# Altium schematic symbol library RCL.SchLib: 6 symbols
Pins are listed as number, name and electrical type; pins without a type are passive.

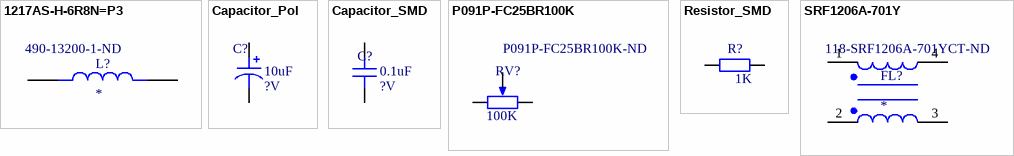
[diagram p0: symbols 1217AS-H-6R8N=P3 to SRF1206A-701Y]

## 1217AS-H-6R8N=P3
designator L?  Supplier Part Number 1: 490-13200-1-ND
Inductor with Inductance: 6.8uH Tol. +/-30%, Package: 3131 (8080); MF: Murata; MP: 1217AS-H-6R8N=P3; SnapEDA_Link: https://www.snapeda.com/parts/1217AS-H-6R8N=P3/Murata/view-part/?ref=snap; Digi-Key_Part_Number: 490-14059-2-ND; Purchase-URL: https://pricing.snapeda.com/search/part/1217AS-H-6R8N=P3/?ref=eda; Check_prices: https://www.snapeda.com/parts/1217AS-H-6R8N=P3/Murata/view-part/?ref=eda; Value: 6.8uH; Package: NONSTANDARD; Supplier 1: Digi-Key
footprint IND_1217AS-H-6R8N=P3
pins: 1, 2

## Capacitor_Pol
designator C?  value 10uF  Voltage: ?V
THT Polarised Capacitor
footprint CAP AL TH D25 L12.5 H52 (16MM Diameter, 7.5MM Lead Spacing Aluminium Capacitor)
footprint CAP AL TH D25 L12.5 H42 (16MM Diameter, 7.5MM Lead Spacing Aluminium Capacitor)
footprint CAP AL TH D25 L12.5 H32 (16MM Diameter, 7.5MM Lead Spacing Aluminium Capacitor)
footprint CAP AL TH D25 L12.5 H14.5 (16MM Diameter, 7.5MM Lead Spacing Aluminium Capacitor)
footprint CAP AL TH D22 L10 H53 (16MM Diameter, 7.5MM Lead Spacing Aluminium Capacitor)
footprint CAP AL TH D22 L10 H43 (16MM Diameter, 7.5MM Lead Spacing Aluminium Capacitor)
footprint CAP AL TH D22 L10 H33 (16MM Diameter, 7.5MM Lead Spacing Aluminium Capacitor)
footprint CAP AL TH D22 L10 H14.5 (16MM Diameter, 7.5MM Lead Spacing Aluminium Capacitor)
footprint CAP AL TH D16 L7.5 H37 (16MM Diameter, 7.5MM Lead Spacing Aluminium Capacitor)
footprint CAP AL TH D16 L7.5 H33.5 (16MM Diameter, 7.5MM Lead Spacing Aluminium Capacitor)
footprint CAP AL TH D16 L7.5 H27 (16MM Diameter, 7.5MM Lead Spacing Aluminium Capacitor)
footprint CAP AL TH D16 L7.5 H26.5 (16MM Diameter, 7.5MM Lead Spacing Aluminium Capacitor)
footprint CAP AL TH D16 L7.5 H22 (16MM Diameter, 7.5MM Lead Spacing Aluminium Capacitor)
footprint CAP AL TH D16 L7.5 H20 (16MM Diameter, 7.5MM Lead Spacing Aluminium Capacitor)
footprint CAP AL TH D16 L7.5 H16.5 (16MM Diameter, 7.5MM Lead Spacing Aluminium Capacitor)
footprint CAP AL TH D12.5 L5 H35.5 (12.5MM Diameter, 5MM Lead Spacing Aluminium Capacitor)
footprint CAP AL TH D12.5 L5 H27 (12.5MM Diameter, 5MM Lead Spacing Aluminium Capacitor)
footprint CAP AL TH D12.5 L5 H26.5 (12.5MM Diameter, 5MM Lead Spacing Aluminium Capacitor)
footprint CAP AL TH D12.5 L5 H25 (12.5MM Diameter, 5MM Lead Spacing Aluminium Capacitor)
footprint CAP AL TH D12.5 L5 H22 (12.5MM Diameter, 5MM Lead Spacing Aluminium Capacitor)
footprint CAP AL TH D12.5 L5 H21.5 (12.5MM Diameter, 5MM Lead Spacing Aluminium Capacitor)
footprint CAP AL TH D12.5 L5 H20 (12.5MM Diameter, 5MM Lead Spacing Aluminium Capacitor)
footprint CAP AL TH D12.5 L5 H17.5 (12.5MM Diameter, 5MM Lead Spacing Aluminium Capacitor)
footprint CAP AL TH D12.5 L5 H16.5 (12.5MM Diameter, 5MM Lead Spacing Aluminium Capacitor)
footprint CAP AL TH D12.5 L5 H15 (12.5MM Diameter, 5MM Lead Spacing Aluminium Capacitor)
footprint CAP AL TH D12.5 L5 H14 (12.5MM Diameter, 5MM Lead Spacing Aluminium Capacitor)
footprint CAP AL TH D10 L5 H30 (10MM Diameter, 5MM Lead Spacing Aluminium Capacitor)
footprint CAP AL TH D10 L5 H22 (10MM Diameter, 5MM Lead Spacing Aluminium Capacitor)
footprint CAP AL TH D10 L5 H17.5 (10MM Diameter, 5MM Lead Spacing Aluminium Capacitor)
footprint CAP AL TH D10 L5 H14.5 (10MM Diameter, 5MM Lead Spacing Aluminium Capacitor)
footprint CAP AL TH D10 L5 H12.5 (10MM Diameter, 5MM Lead Spacing Aluminium Capacitor)
footprint CAP AL TH D8 L3.5 H21 (8MM Diameter, 3.5MM Lead Spacing Aluminium Capacitor)
footprint CAP AL SMD FT SIZE D (Panasonic Surface Mount Caps, Series FT, Type V)
footprint CAP AL SMD ZS SIZE GT16 (Panasonic Surface Mount Caps, Series ZS, Type V)
footprint CAP AL TH D6.3 L2.5 H12.5 (6.3mm Diameter, 2.5mm Lead Spacing Aluminium Capacitor)
footprint CAP AL SMD ZS SIZE G Vibration Proof (Panasonic Surface Mount Caps, Series ZS, Type V)
footprint CAP AL SMD SVPK E7 (Dia 8mm Polymer Aluminum)
footprint CAP AL SMD D10 W10.3 L 12.4
footprint CAP AL TH D35 L10 H35 (35MM Diameter, 10MM Lead Spacing Aluminium Capacitor)
footprint DGH504Q5R5_H
footprint CAP AL TH D8 L3.5 H11.5 (8MM Diameter, 3.5MM Lead Spacing Aluminium Capacitor)
footprint CAP AL SMD FT SIZE D8 (Panasonic Surface Mount Caps, Series FT, Type V, 8mm heigth)
footprint CAP AL SMD FT SIZE C (Panasonic Surface Mount Caps, Series FT, Type V, 8mm heigth)
footprint CAP AL TH D5 L2 H12.5 (5mm Diameter, 2mm Lead Spacing Aluminium Capacitor)
pins: 1, 2

## Capacitor_SMD
designator C?  value 0.1uF  Voltage: ?V
SMD Capacitor
footprint CAP 0201/0603 (Chip Capacitor, 2-Leads, Body 0.60x0.30mm, IPC Medium Density)
footprint CAP 0201/0603 RF (Chip Capacitor, 2-Leads, Body 0.60x0.30mm, IPC High Density)
footprint CAP 0402/1005 (Chip Capacitor, 2-Leads, Body 1.02x0.51mm, IPC Medium Density)
footprint CAP 0402/1005 RF (Chip Capacitor, 2-Leads, Body 1.02x0.51mm, IPC High Density)
footprint CAP 0603/1608 (Chip Capacitor, 2-Leads, Body 1.60x0.80mm, IPC Medium Density)
footprint CAP 0603/1608 RF (Chip Capacitor, 2-Leads, Body 1.60x0.80mm, IPC High Density)
footprint CAP 0805/2012 (Chip Capacitor, 2-Leads, Body 2.00x1.20mm, IPC Medium Density)
footprint CAP 0805/2012 RF (Chip Capacitor, 2-Leads, Body 2.00x1.20mm, IPC High Density)
footprint CAP 1206/3216 (Chip Capacitor, 2-Leads, Body 3.25x1.60mm, IPC Medium Density)
footprint CAP 1206/3216 - 0.8MM (Chip Capacitor, 2-Leads, Body 3.25x1.60mm, IPC Medium Density)
footprint CAP 1206/3216 - 1.0MM (Chip Capacitor, 2-Leads, Body 3.25x1.60mm, IPC Medium Density)
footprint CAP 1206/3216 - 1.2MM (Chip Capacitor, 2-Leads, Body 3.25x1.60mm, IPC Medium Density)
footprint CAP 1206/3216 - 1.8MM (Chip Capacitor, 2-Leads, Body 3.25x1.60mm, IPC Medium Density)
footprint CAP 1210/3225 - 1MM (Chip Capacitor, 2-Leads, Body 3.20x2.50mm, IPC Medium Density)
footprint CAP 1210/3225 - 1.2MM (Chip Capacitor, 2-Leads, Body 3.20x2.50mm, IPC Medium Density)
footprint CAP 1210/3225 - 1.4MM (Chip Capacitor, 2-Leads, Body 3.20x2.50mm, IPC Medium Density)
footprint CAP 1210/3225 - 1.6MM (Chip Capacitor, 2-Leads, Body 3.20x2.50mm, IPC Medium Density)
footprint CAP 1210/3225 - 1.8MM (Chip Capacitor, 2-Leads, Body 3.20x2.50mm, IPC Medium Density)
footprint CAP 1210/3225 - 2.0MM (Chip Capacitor, 2-Leads, Body 3.20x2.50mm, IPC Medium Density)
footprint CAP 1210/3225 - 2.2MM (Chip Capacitor, 2-Leads, Body 3.20x2.50mm, IPC Medium Density)
footprint CAP 1210/3225 - 2.5MM (Chip Capacitor, 2-Leads, Body 3.20x2.50mm, IPC Medium Density)
footprint CAP 1210/3225 - 2.8MM (Chip Capacitor, 2-Leads, Body 3.20x2.50mm, IPC Medium Density)
footprint CAP 1812/4532 1.1MM (Chip Capacitor, 2-Leads, Body 4.50x3.20mm, IPC Medium Density)
footprint CAP 1812/4532 1.35MM (Chip Capacitor, 2-Leads, Body 4.50x3.20mm, IPC Medium Density)
footprint CAP 1812/4532 1.5MM (Chip Capacitor, 2-Leads, Body 4.50x3.20mm, IPC Medium Density)
footprint CAP 1812/4532 1.75MM (Chip Capacitor, 2-Leads, Body 4.50x3.20mm, IPC Medium Density)
footprint CAP 1812/4532 2.00MM (Chip Capacitor, 2-Leads, Body 4.50x3.20mm, IPC Medium Density)
footprint CAP 1812/4532 2.20MM (Chip Capacitor, 2-Leads, Body 4.50x3.20mm, IPC Medium Density)
footprint CAP 1812/4532 2.55MM (Chip Capacitor, 2-Leads, Body 4.50x3.20mm, IPC Medium Density)
footprint CAP 1812/4532 2.8MM (Chip Capacitor, 2-Leads, Body 4.50x3.20mm, IPC Medium Density)
footprint CAP 1812/4532 3.5MM (Chip Capacitor, 2-Leads, Body 4.50x3.20mm, IPC Medium Density)
footprint CAP 2220/5650 1.5MM (Chip Capacitor, 2-Leads, Body 5.70x5.00mm, IPC Medium Density)
footprint CAP 2220/5650 2.0MM (Chip Capacitor, 2-Leads, Body 5.70x5.00mm, IPC Medium Density)
footprint CAP 2220/5650 2.5MM (Chip Capacitor, 2-Leads, Body 5.70x5.00mm, IPC Medium Density)
footprint CAP 2220/5650 3.0MM (Chip Capacitor, 2-Leads, Body 5.70x5.00mm, IPC Medium Density)
footprint CAP 2220/5650 3.3MM (Chip Capacitor, 2-Leads, Body 5.70x5.00mm, IPC Medium Density)
footprint CAP 2220/5650 4.2MM (Chip Capacitor, 2-Leads, Body 5.70x5.00mm, IPC Medium Density)
footprint CAP 0805/2012 - Large Separation (Chip Capacitor, 2-Leads, Body 2.00x1.20mm, IPC Medium Density)
pins: 1, 2

## P091P-FC25BR100K
designator RV?  value 100K  Supplier Part Number 1: P091P-FC25BR100K-ND  (hidden comment: *)
Potentiometer 9mm 100K ohm 20% Push Lock; Supplier 1: Digi-Key
pins: 1, 2 TAP, 3

## Resistor_SMD
designator R?  value 1K
SMD Resistor; Power: 100mW
footprint RES 0201/0603 (Chip Resistor, 2-Leads, Body 0.60x0.30mm, IPC Medium Density)
footprint RES 0402/1005 (Chip Resistor, 2-Leads, Body 1.0x0.5mm, IPC Medium Density)
footprint RES 0402/1005 RF (Chip Resistor, 2-Leads, Body 1.0x0.5mm, IPC High Density)
footprint RES 0603/1608 (Chip Resistor, 2-Leads, Body 1.60x0.80mm, IPC Medium Density)
footprint RES 0603/1608 RF (Chip Resistor, 2-Leads, Body 1.60x0.80mm, IPC High Density)
footprint RES 0805/2012 (Chip Resistor, 2-Leads, Body 2.00x1.25mm, IPC Medium Density)
footprint RES 0805/2012 RF (Chip Resistor, 2-Leads, Body 2.00x1.25mm, IPC High Density)
footprint RES 1206/3216 (Chip Resistor, 2-Leads, Body 3.13x1.55mm, IPC Medium Density)
footprint RES 1206/3216 RF (Chip Resistor, 2-Leads, Body 3.13x1.55mm, IPC High Density)
footprint RES 2512/6332
footprint RES MELF 0204 (MELF Resistor, 2-Leads, Body 3.50x1.40mm, IPC Medium Density)
footprint RES 1210/3225 (Chip Capacitor, 2-Leads, Body 3.20x2.50mm, IPC Medium Density)
footprint RES 0201/0603 RF (Chip Resistor, 2-Leads, Body 0.60x0.30mm, IPC High Density)
pins: 1, 2

## SRF1206A-701Y
designator FL?  Supplier Part Number 1: 118-SRF1206A-701YCT-ND
Common Mode Choke 80VDC 8A; Value: 9uH; Supplier 1: Digi-Key
pins: 1, 2, 3, 4